# Altium footprint library PT01-D120D-B502.PcbLib: 2 footprints
Each footprint in its own frame and in the unit in brackets; x right, y up, seen from the top. Pads: shape width x height; smd on the part's side, far side on the other; paste and mask are expansions set on the pad; w line width, h text height; cw(c..) or ccw(c..) is an arc to the next point about the centre after c.
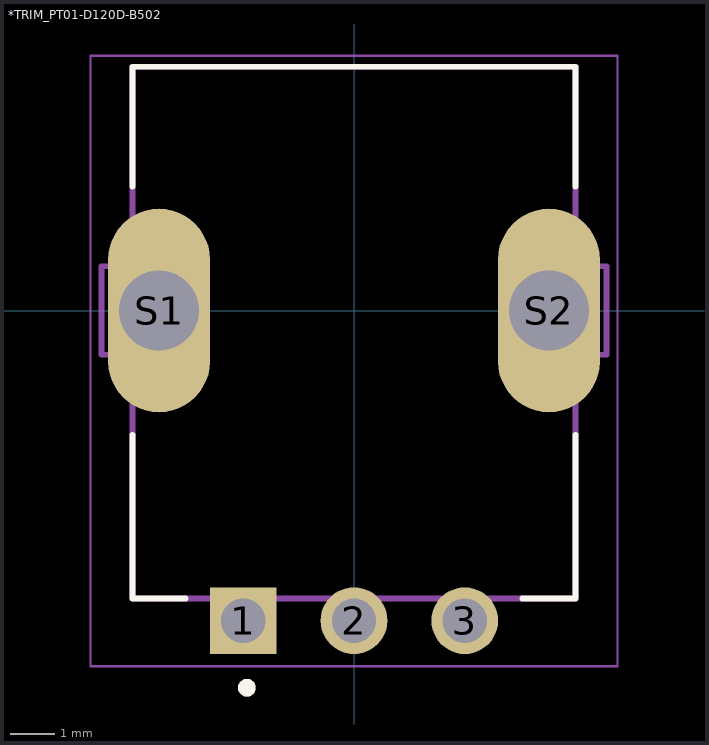
[diagram p0: the footprints below, top view; thin cyan lines are the x and y axes]

## *TRIM_PT01-D120D-B502 [mm]
pads (5):
  rect 1.508x1.508 hole 1: 1(-2.5,-7)
  round 1.508 hole 1: 2(0,-7) 3(2.5,-7)
  oval 2.3x4.6 hole 1.8: S1(-4.4,0) S2(4.4,0)
Top Overlay:
  circle w0.2: c-2.418,-8.514 r0.1
  lines w0.127: -5,-2.8 -5,-6.5 -3.8,-6.5 ; -5,2.8 -5,5.5 5,5.5 5,2.8 ; 3.8,-6.5 5,-6.5 5,-2.8
Mechanical 1:
  lines w0: -5.3,-1.1 -3.5,-1.1 -3.5,1.1 -5.3,1.1 -5.3,-1.1 ; 3.5,-1.1 5.3,-1.1 5.3,1.1 3.5,1.1 3.5,-1.1
Mechanical 4:
  circle w0.2: c-2.418,-8.514 r0.1
  circle w0.2: c-2.418,-8.514 r0.1
  lines w0.127: -5.7,-1 -5.7,1 ; -5.7,-1 -5,-1 ; -5.7,-1 -5.7,1 ; -5.7,-1 -5,-1 ; -5.7,1 -5,1 ; -5.7,1 -5,1 ; -5,-6.5 5,-6.5 ; -5,-6.5 -5,-1 ; -5,-6.5 5,-6.5 ; -5,-6.5 -5,-1 ; -5,1 -5,5.5 ; -5,1 -5,5.5 ; -5,5.5 5,5.5 ; -5,5.5 5,5.5 ; 5,-6.5 5,-1 ; 5,-6.5 5,-1 ; 5,-1 5.7,-1 ; 5,-1 5.7,-1 ; 5,1 5.7,1 ; 5,1 5,5.5 ; 5,1 5.7,1 ; 5,1 5,5.5 ; 5.7,-1 5.7,1 ; 5.7,-1 5.7,1
Mechanical 16:
  lines w0.05: -5.95,-8.03 -5.95,5.75 5.95,5.75 5.95,-8.03 -5.95,-8.03

## PCBComponent_1 [mm]